# EAGLE library part 418117270903 (library Eagle_SWITCHES (rev18c))
2.54 mm compact THT with raised actuator WS-DITV, 2 Pole <http://katalog.we-online.de/media/images/v2/Family_WS_BS_4181172709xx_pf2.jpg> Details see: http://katalog.we-online.de/en/em/DITV_2_54_COMPACT_THT_WITH_RAISED_ACTUATOR 2015 (C) Wurth Elektronik
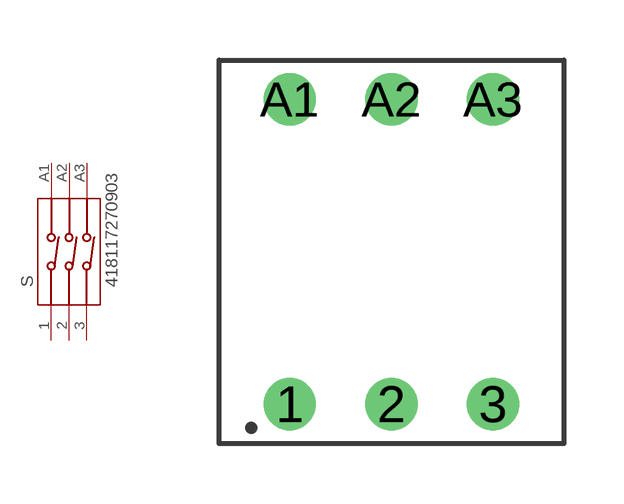
[diagram p33: symbol with the pads of 418117270903; footprint 418117270903]

Designator prefix S

## 418117270903  [418117270903]
1  1  pas
2  2  pas
3  3  pas
A1  A1  pas
A2  A2  pas
A3  A3  pas

## Footprint 418117270903 (pad centres in mm)
WS-BS 2.54 mm compact THT Dip Switch with raised actuator, 3 Pole
drill 0.8: 1 -2.54,-3.81; 2 0,-3.81; 3 2.54,-3.81; A1 -2.54,3.81; A2 0,3.81; A3 2.54,3.81